# Altium footprint library encoders.PcbLib: 1 footprints
Each footprint in its own frame and in the unit in brackets; x right, y up, seen from the top. Pads: shape width x height; smd on the part's side, far side on the other; paste and mask are expansions set on the pad; w line width, h text height; cw(c..) or ccw(c..) is an arc to the next point about the centre after c.
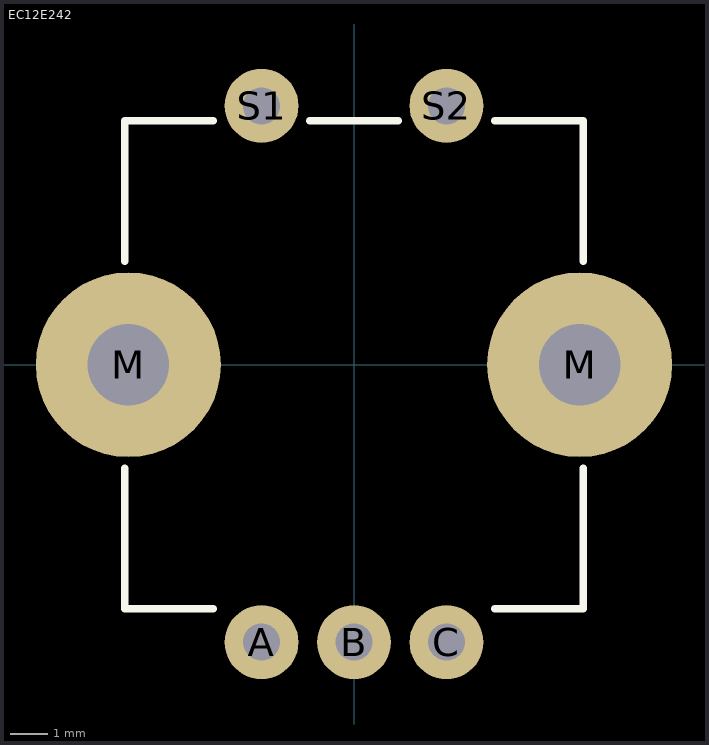
[diagram p0: the footprint, top view; thin cyan lines are the x and y axes]

## EC12E242 [mm] "12mm Size Insulated Shaft (20mm operating section) Type Encoder"
pads (7):
  round 2 hole 1: A(-2.5,-7.5) B(0,-7.5) C(2.5,-7.5) S1(-2.5,7) S2(2.5,7)
  round 5 hole 2.2: M(-6.1,0) M(6.1,0)
Top Overlay:
  lines w0.2: -6.2,-2.8 -6.2,-6.6 -3.8,-6.6 ; -6.2,2.8 -6.2,6.6 -3.8,6.6 ; -1.2,6.6 1.2,6.6 ; 3.8,-6.6 6.2,-6.6 6.2,-2.8 ; 3.8,6.6 6.2,6.6 6.2,2.8
3D body "EC12E-200.STEP": height 20.1, standoff -3.4, extent -6.995,-7.649 6.996,6.6